# EAGLE library part NIKON_10_PIN (library Nikon 10 pin breakout)
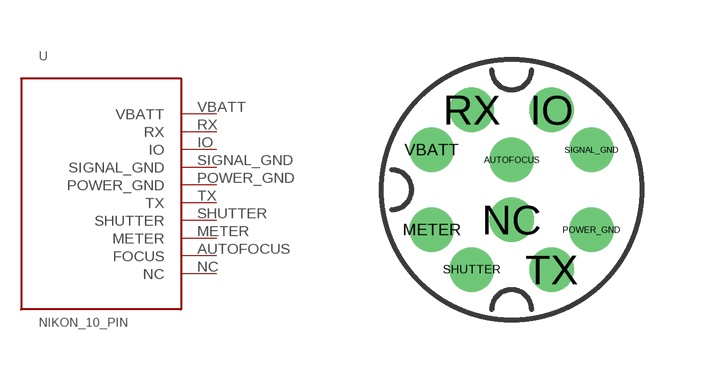
[diagram p0: symbol with the pads of TH; footprint TH]

Designator prefix -

## NIKON_10_PINIC  [TH]
AUTOFOCUS  FOCUS
IO  IO
METER  METER
NC  NC  nc
POWER_GND  POWER_GND  pwr
RX  RX  in
SHUTTER  SHUTTER
SIGNAL_GND  SIGNAL_GND  pwr
TX  TX  out
VBATT  VBATT  pwr

## Footprint TH (pad centres in mm)
drill 0.6: AUTOFOCUS 0,0.75; IO 1,2; METER -2,-1; NC 0,-0.75; POWER_GND 2,-1; RX -1,2; SHUTTER -1,-2; SIGNAL_GND 2,1; TX 1,-2; VBATT -2,1